# EAGLE library part STK200 (library avr)
STK200 pin header
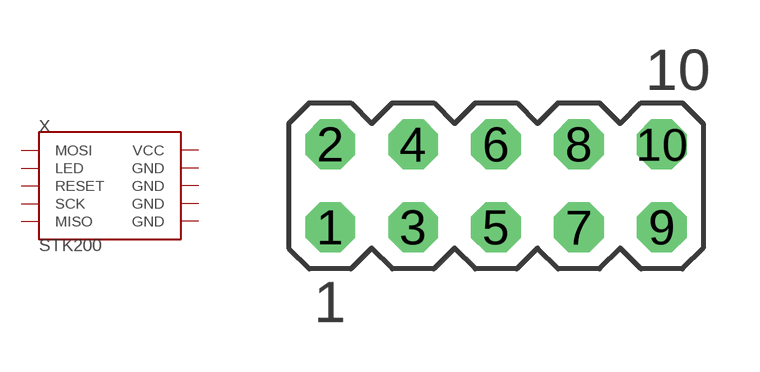
[diagram p0: symbol with the pads of MA05-2; footprint MA05-2]

Designator prefix X

## STK200  [MA05-2]
1  MISO
2  VCC  pwr
3  LED
4  GND  pwr
5  RESET
6  GND  pwr
7  SCK
8  GND  pwr
9  MOSI
10  GND  pwr

## Footprint MA05-2 (pad centres in mm)
PIN HEADER
drill 1.016 octagon: 1 -5.08,-1.27; 2 -5.08,1.27; 3 -2.54,-1.27; 4 -2.54,1.27; 5 0,-1.27; 6 0,1.27; 7 2.54,-1.27; 8 2.54,1.27; 9 5.08,-1.27; 10 5.08,1.27